# Altium schematic symbol library memory_sdram_lpddr3.SchLib: 1 symbol
Pins are listed as number, name and electrical type; pins without a type are passive.

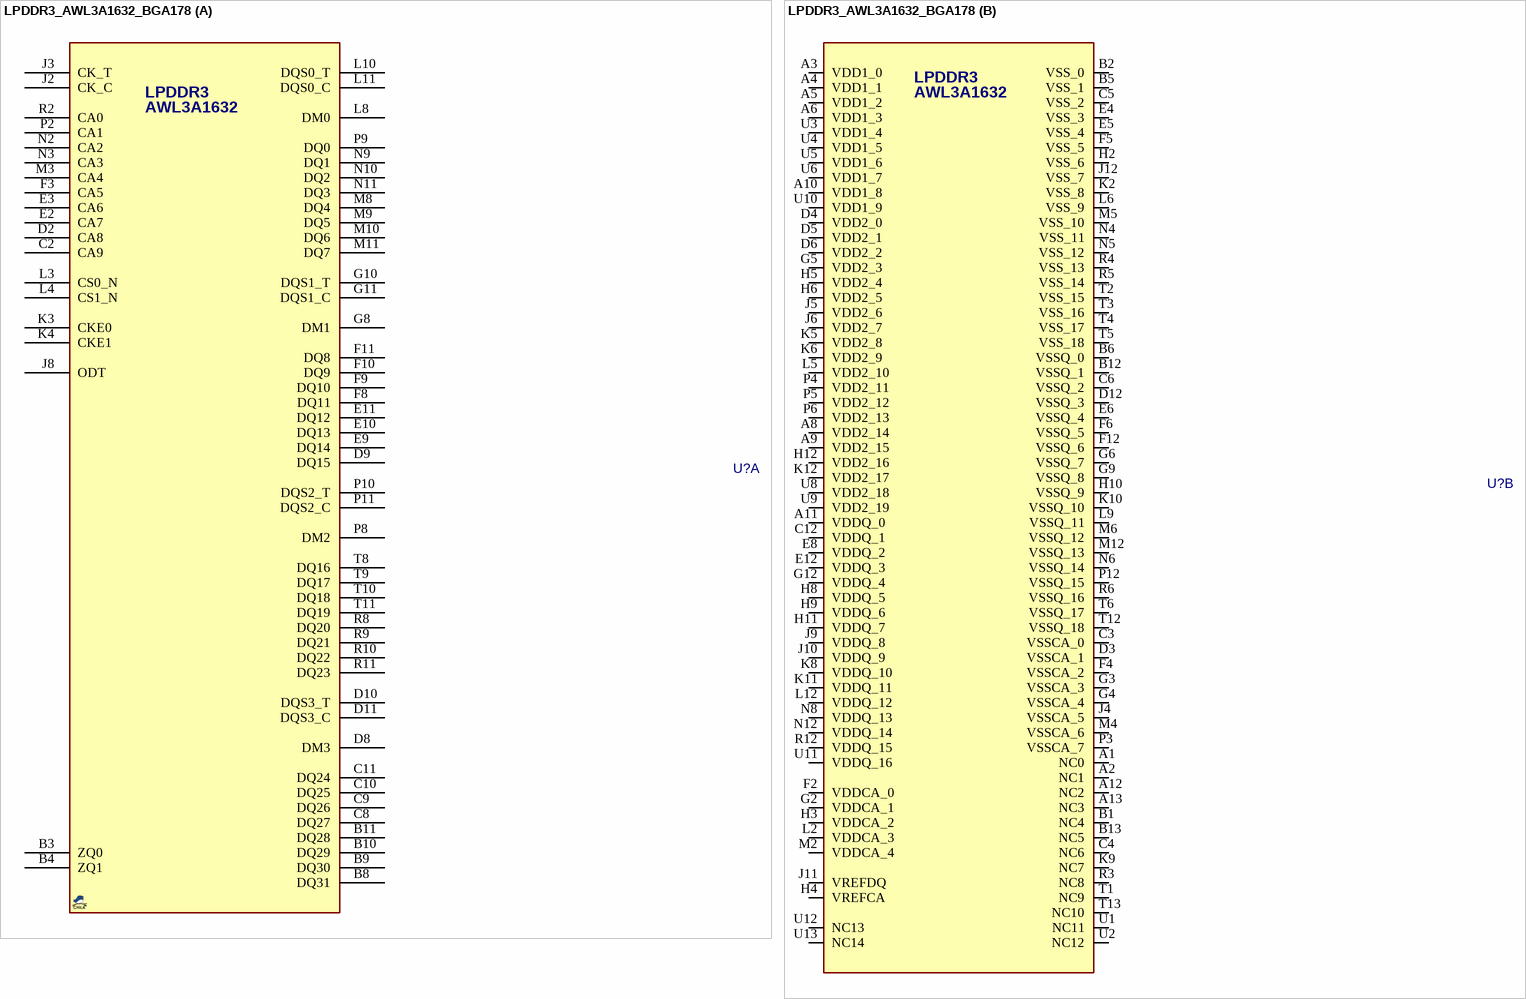
[diagram p0: symbol LPDDR3_AWL3A1632_BGA178]

## LPDDR3_AWL3A1632_BGA178
designator U?, comment LPDDR3_AWL3A1632  (value not drawn)
LPDDR4 SDRAM, 16Gb (512Mb X32), FBGA-178; MANF_P#: AWL3A1632-12D2LK35CS; MANF: Allwinner; PARAM: 16Gb (512Mb X32), 800MHz; PARAM2: 1.8Vdd1, 1.2Vdd2, 1.2Vddca, 1.2Vddq, 0~75°C; ASSEMBLY: ASSEMBLY; PRICE: -$; VALUE: LPDDR3_AWL3A1632
footprint BGA65_178_11X11 (BGA-178, pitch: 0.65mm, 17X13, 11.50x11x1mm)
part A pins: B3 ZQ0, B4 ZQ1, B8 DQ31, B9 DQ30, B10 DQ29, B11 DQ28, C2 CA9, C8 DQ27, C9 DQ26, C10 DQ25, C11 DQ24, D2 CA8, D8 DM3, D9 DQ15, D10 DQS3_T, D11 DQS3_C, E2 CA7, E3 CA6, E9 DQ14, E10 DQ13, E11 DQ12, F3 CA5, F8 DQ11, F9 DQ10, F10 DQ9, F11 DQ8, G8 DM1, G10 DQS1_T, G11 DQS1_C, J2 CK_C, J3 CK_T, J8 ODT, K3 CKE0, K4 CKE1, L3 CS0_N, L4 CS1_N, L8 DM0, L10 DQS0_T, L11 DQS0_C, M3 CA4, M8 DQ4, M9 DQ5, M10 DQ6, M11 DQ7, N2 CA2, N3 CA3, N9 DQ1, N10 DQ2, N11 DQ3, P2 CA1, P8 DM2, P9 DQ0, P10 DQS2_T, P11 DQS2_C, R2 CA0, R8 DQ20, R9 DQ21, R10 DQ22, R11 DQ23, T8 DQ16, T9 DQ17, T10 DQ18, T11 DQ19
part B pins: A1 NC0, A2 NC1, A3 VDD1_0, A4 VDD1_1, A5 VDD1_2, A6 VDD1_3, A8 VDD2_14, A9 VDD2_15, A10 VDD1_8, A11 VDDQ_0, A12 NC2, A13 NC3, B1 NC4, B2 VSS_0, B5 VSS_1, B6 VSSQ_0, B12 VSSQ_1, B13 NC5, C3 VSSCA_0, C4 NC6, C5 VSS_2, C6 VSSQ_2, C12 VDDQ_1, D3 VSSCA_1, D4 VDD2_0, D5 VDD2_1, D6 VDD2_2, D12 VSSQ_3, E4 VSS_3, E5 VSS_4, E6 VSSQ_4, E8 VDDQ_2, E12 VDDQ_3, F2 VDDCA_0, F4 VSSCA_2, F5 VSS_5, F6 VSSQ_5, F12 VSSQ_6, G2 VDDCA_1, G3 VSSCA_3, G4 VSSCA_4, G5 VDD2_3, G6 VSSQ_7, G9 VSSQ_8, G12 VDDQ_4, H2 VSS_6, H3 VDDCA_2, H4 VREFCA, H5 VDD2_4, H6 VDD2_5, H8 VDDQ_5, H9 VDDQ_6, H10 VSSQ_9, H11 VDDQ_7, H12 VDD2_16, J4 VSSCA_5, J5 VDD2_6, J6 VDD2_7, J9 VDDQ_8, J10 VDDQ_9, J11 VREFDQ, J12 VSS_7, K2 VSS_8, K5 VDD2_8, K6 VDD2_9, K8 VDDQ_10, K9 NC7, K10 VSSQ_10, K11 VDDQ_11, K12 VDD2_17, L2 VDDCA_3, L5 VDD2_10, L6 VSS_9, L9 VSSQ_11, L12 VDDQ_12, M2 VDDCA_4, M4 VSSCA_6, M5 VSS_10, M6 VSSQ_12, M12 VSSQ_13, N4 VSS_11, N5 VSS_12, N6 VSSQ_14, N8 VDDQ_13, N12 VDDQ_14, P3 VSSCA_7, P4 VDD2_11, P5 VDD2_12, P6 VDD2_13, P12 VSSQ_15, R3 NC8, R4 VSS_13, R5 VSS_14, R6 VSSQ_16, R12 VDDQ_15, T1 NC9, T2 VSS_15, T3 VSS_16, T4 VSS_17, T5 VSS_18, T6 VSSQ_17, T12 VSSQ_18, T13 NC10, U1 NC11, U2 NC12, U3 VDD1_4, U4 VDD1_5, U5 VDD1_6, U6 VDD1_7, U8 VDD2_18, U9 VDD2_19, U10 VDD1_9, U11 VDDQ_16, U12 NC13, U13 NC14
part A text: LPDDR3; AWL3A1632
part B text: LPDDR3; AWL3A1632